# EAGLE library part FDMF6820A (library ICs)
Half Bridge Driver Synchronous Buck Converters DrMOS 40-PQFN (6x6)
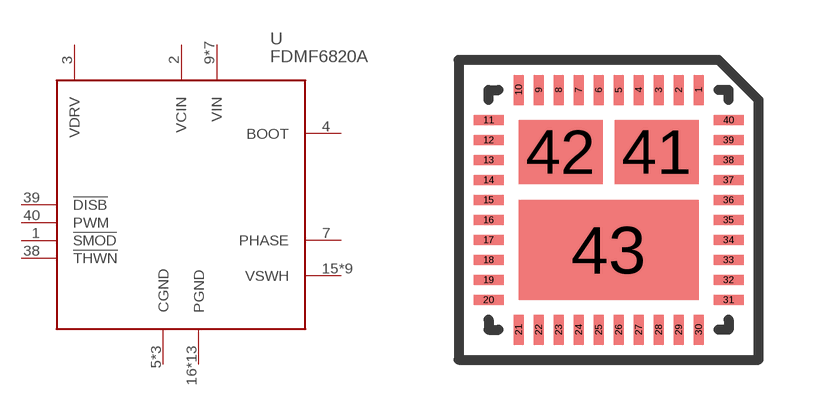
[diagram p171: symbol with the pads of QFN40_FDMF; footprint QFN40_FDMF]

Designator prefix U

## FDMF6820A (DIGIKEY: FDMF6820AFSCT-ND; HEIGHT: 1.1; PRICE_PER: 2.14; VALUE: FDMF6820A)  [QFN40_FDMF]
1  !SMOD  in
2  VCIN  pwr
3  VDRV  pwr
4  BOOT
5  CGND  pwr
7  PHASE  in
9  VIN  pwr
10  VIN  pwr
11  VIN  pwr
12  VIN  pwr
13  VIN  pwr
14  VIN  pwr
15  VSWH  out
16  PGND  pwr
17  PGND  pwr
18  PGND  pwr
19  PGND  pwr
20  PGND  pwr
21  PGND  pwr
22  PGND  pwr
23  PGND  pwr
24  PGND  pwr
25  PGND  pwr
26  PGND  pwr
27  PGND  pwr
28  PGND  pwr
29  VSWH  out
30  VSWH  out
31  VSWH  out
32  VSWH  out
33  VSWH  out
34  VSWH  out
35  VSWH  out
37  CGND  pwr
38  !THWN  out
39  !DISB  in
40  PWM  in
41  CGND  pwr
42  VIN  pwr
43  VSWH  out

## Footprint QFN40_FDMF (pad centres in mm)
smd 0.25 x 0.75: 1 2.25,3; 2 1.75,3; 3 1.25,3; 4 0.75,3; 5 0.25,3; 6 -0.25,3; 7 -0.75,3; 8 -1.25,3; 9 -1.75,3; 10 -2.25,3; 21 -2.25,-3; 22 -1.75,-3; 23 -1.25,-3; 24 -0.75,-3; 25 -0.25,-3; 26 0.25,-3; 27 0.75,-3; 28 1.25,-3; 29 1.75,-3; 30 2.25,-3
smd 0.75 x 0.25: 11 -3,2.25; 12 -3,1.75; 13 -3,1.25; 14 -3,0.75; 15 -3,0.25; 16 -3,-0.25; 17 -3,-0.75; 18 -3,-1.25; 19 -3,-1.75; 20 -3,-2.25; 31 3,-2.25; 32 3,-1.75; 33 3,-1.25; 34 3,-0.75; 35 3,-0.25; 36 3,0.25; 37 3,0.75; 38 3,1.25; 39 3,1.75; 40 3,2.25
smd 2.1 x 1.6: 41 1.2,1.45; 42 -1.2,1.45
smd 4.5 x 2.5: 43 0,-1